# Altium integrated library Altera Cyclone III.IntLib: 225 symbols (part 47 of 48)

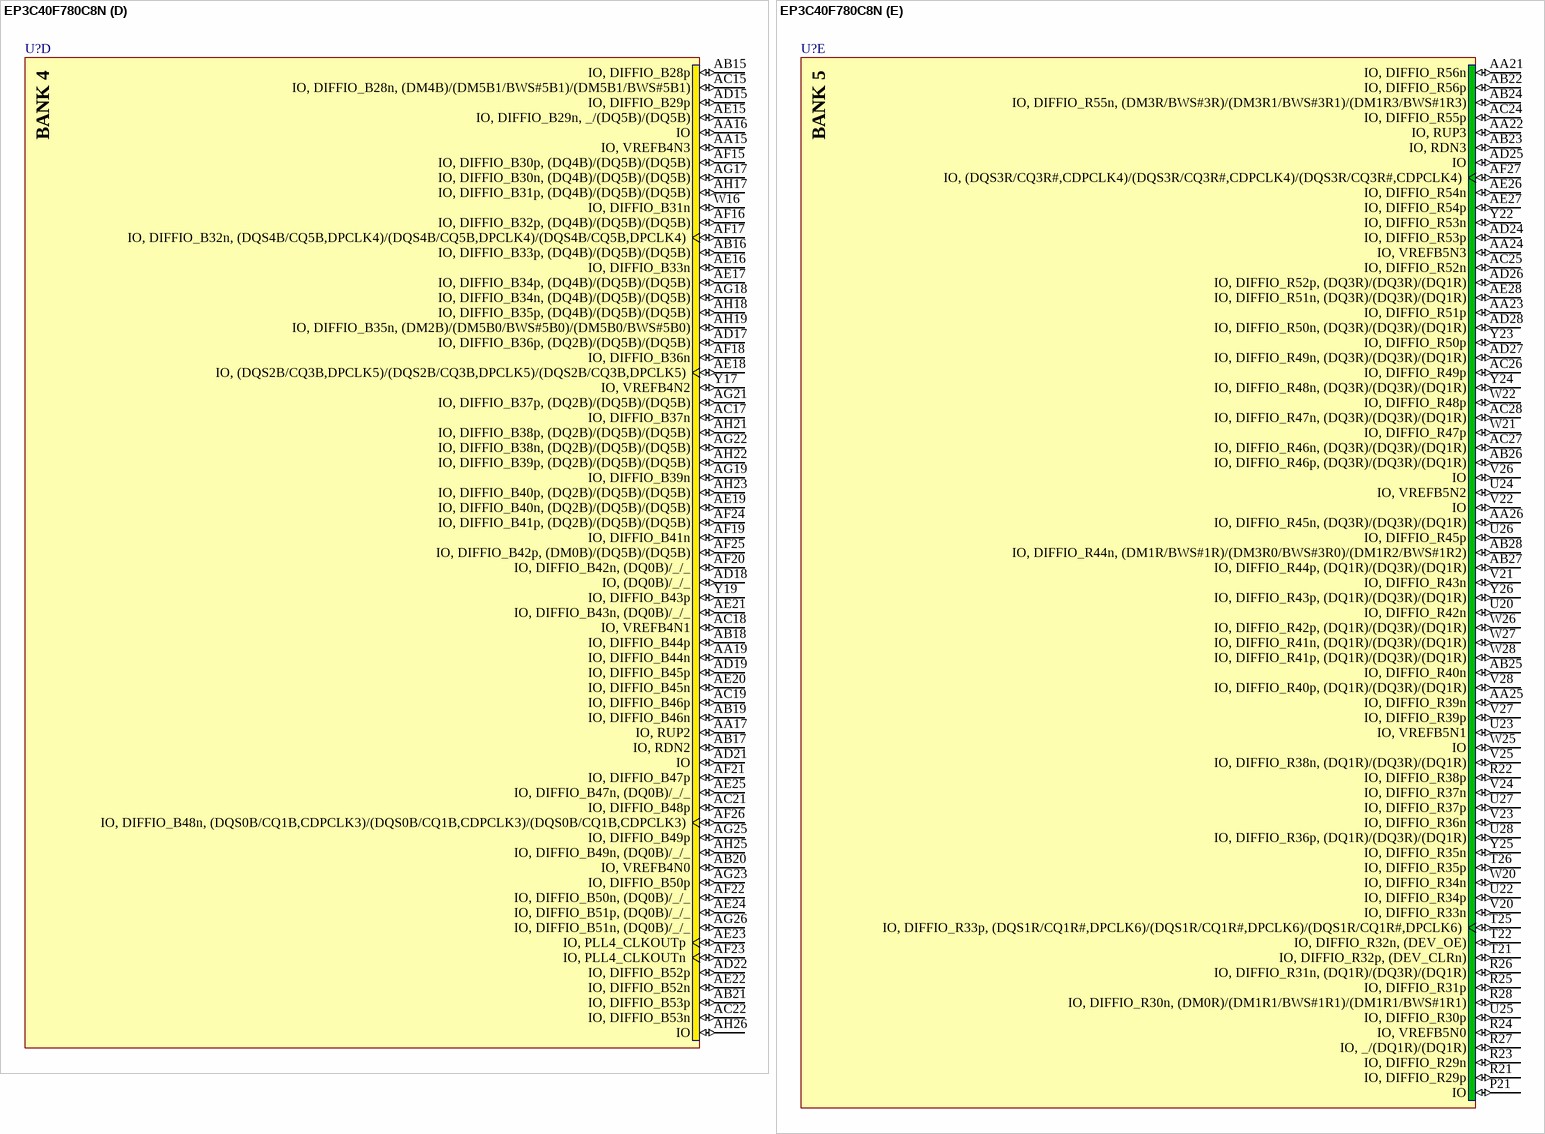
[diagram p231: symbol EP3C40F780C8N]

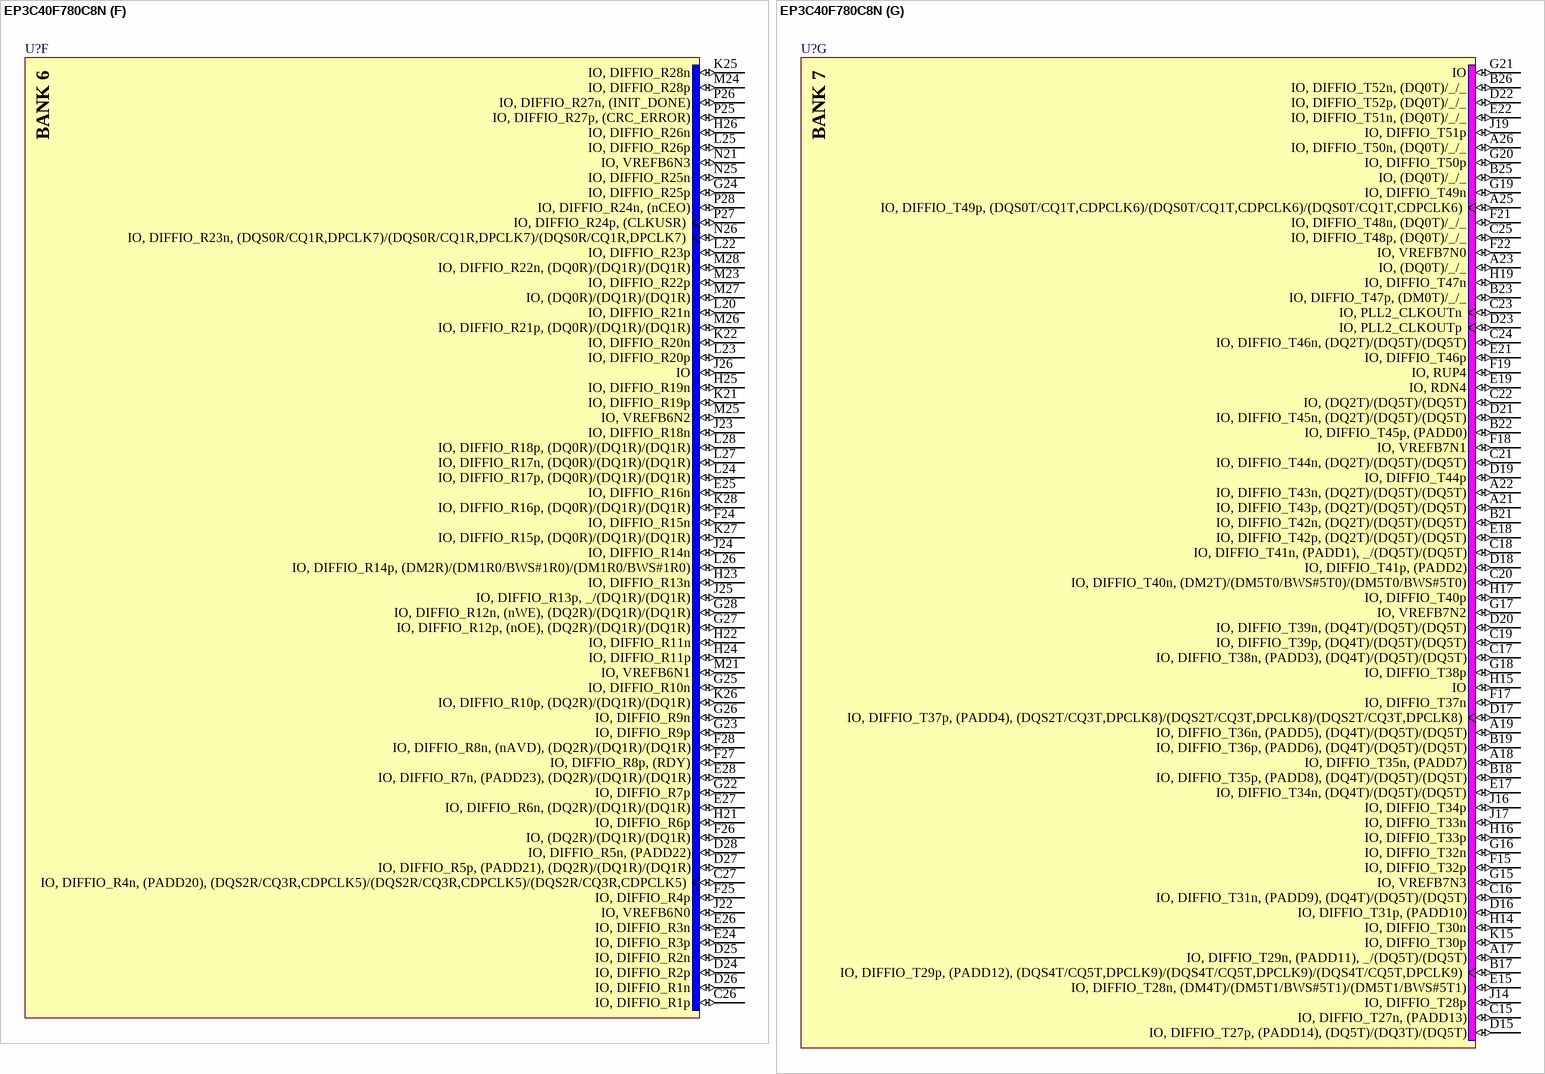
[diagram p232: symbol EP3C40F780C8N]

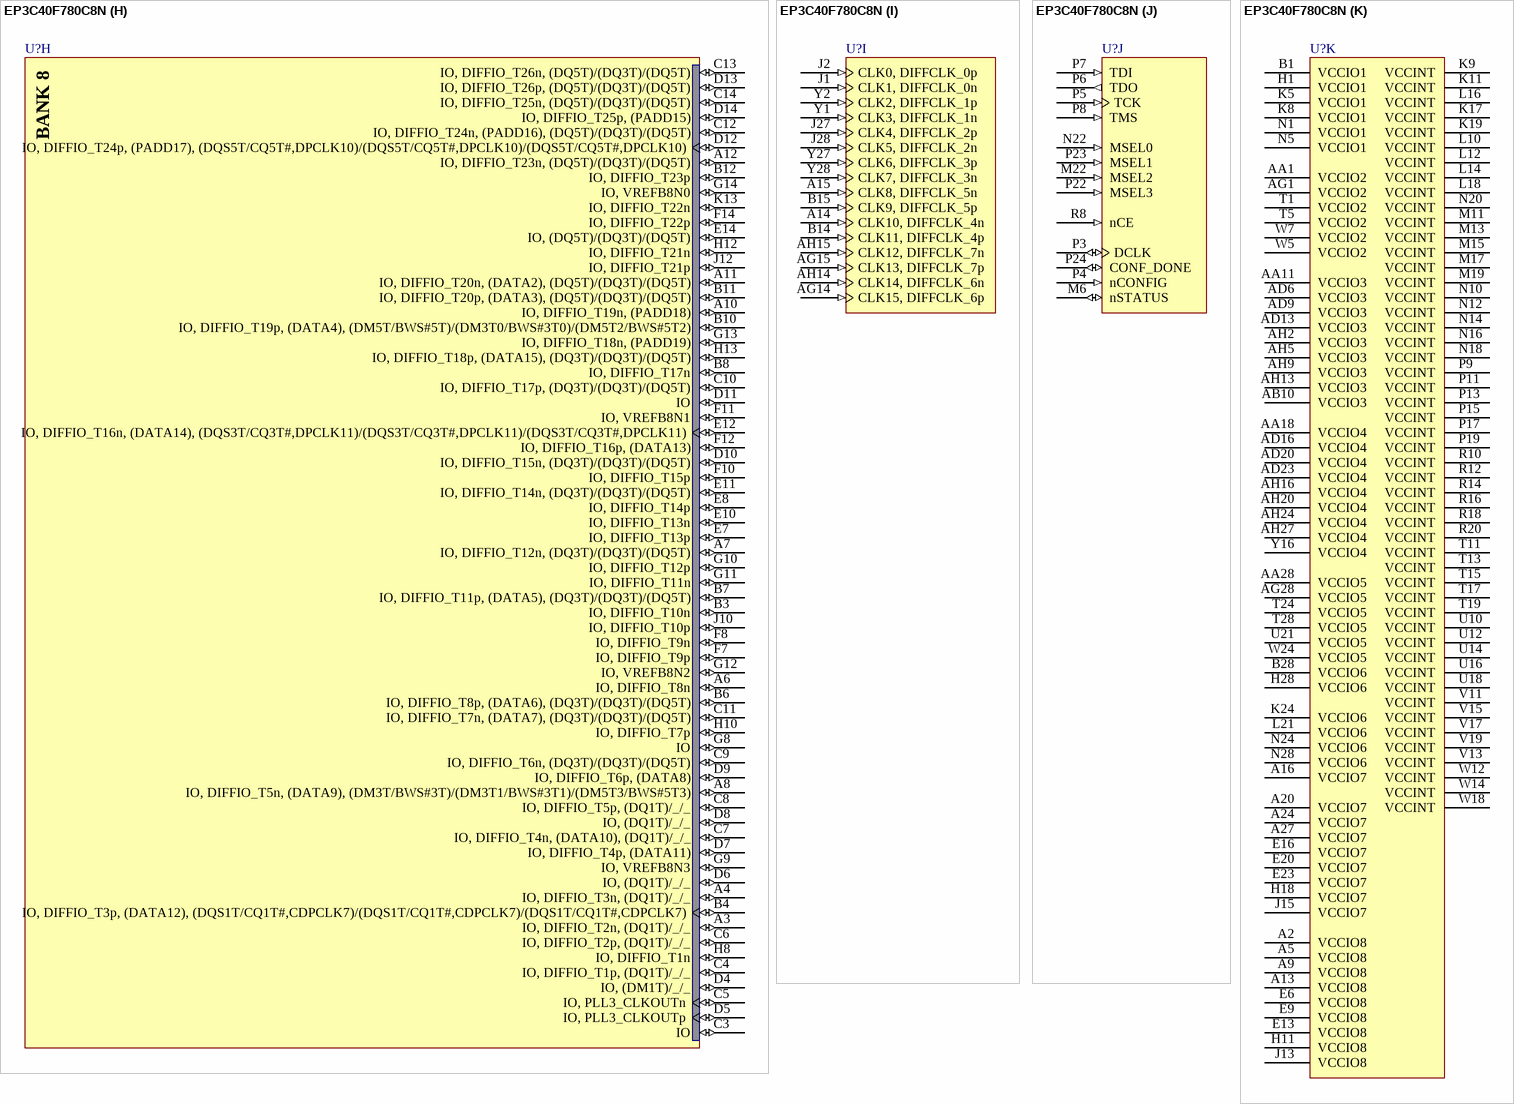
[diagram p233: symbol EP3C40F780C8N]

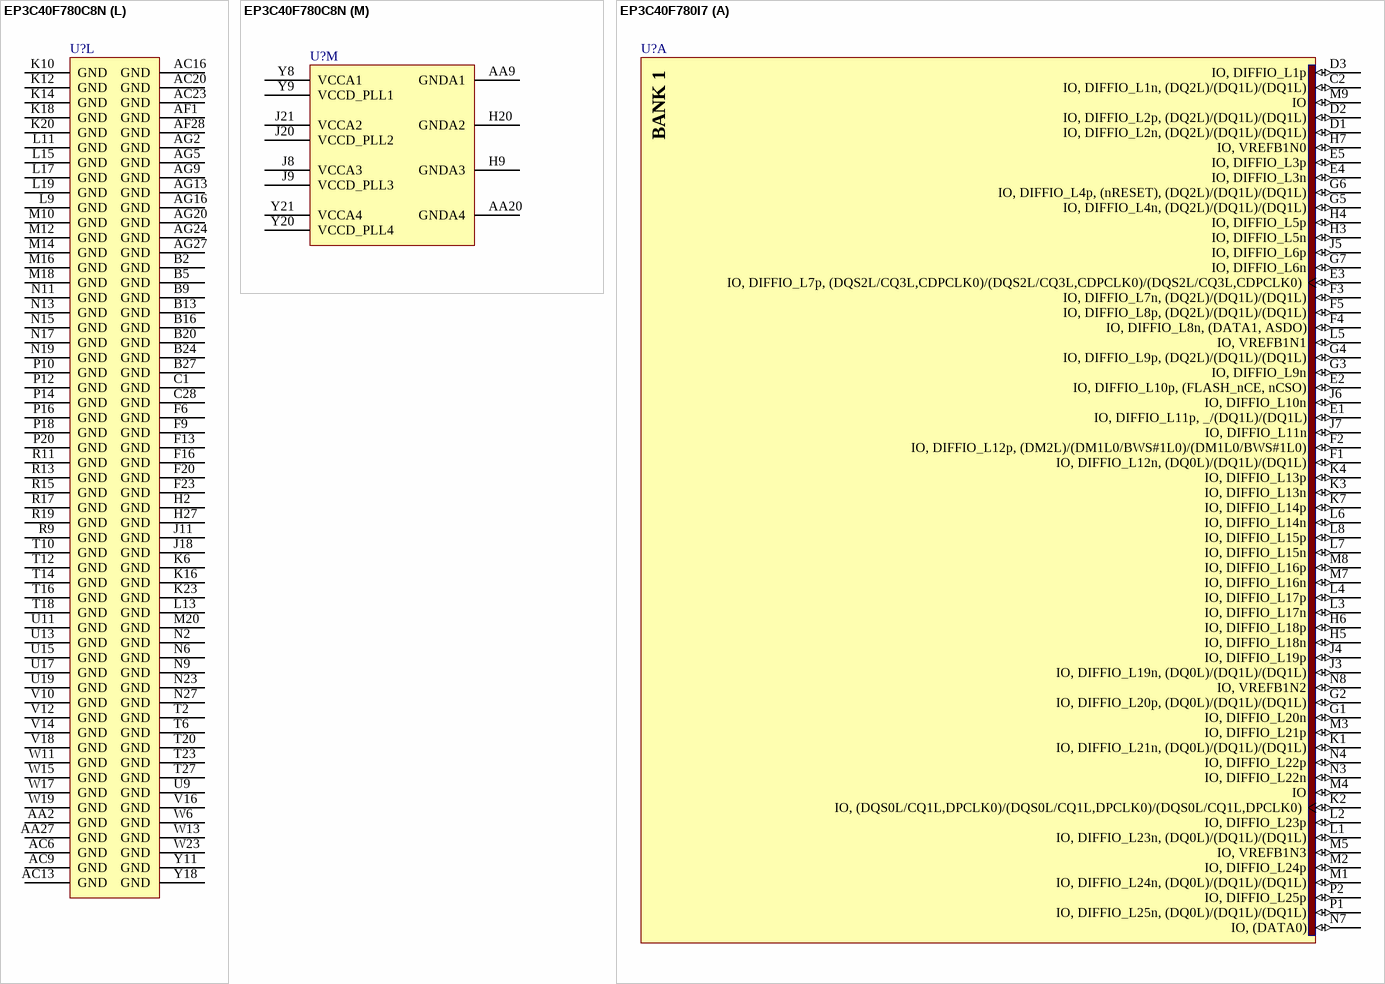
[diagram p234: symbols EP3C40F780C8N to EP3C40F780I7]